# EAGLE library part ROTARY_SW (library SquantorButtons)
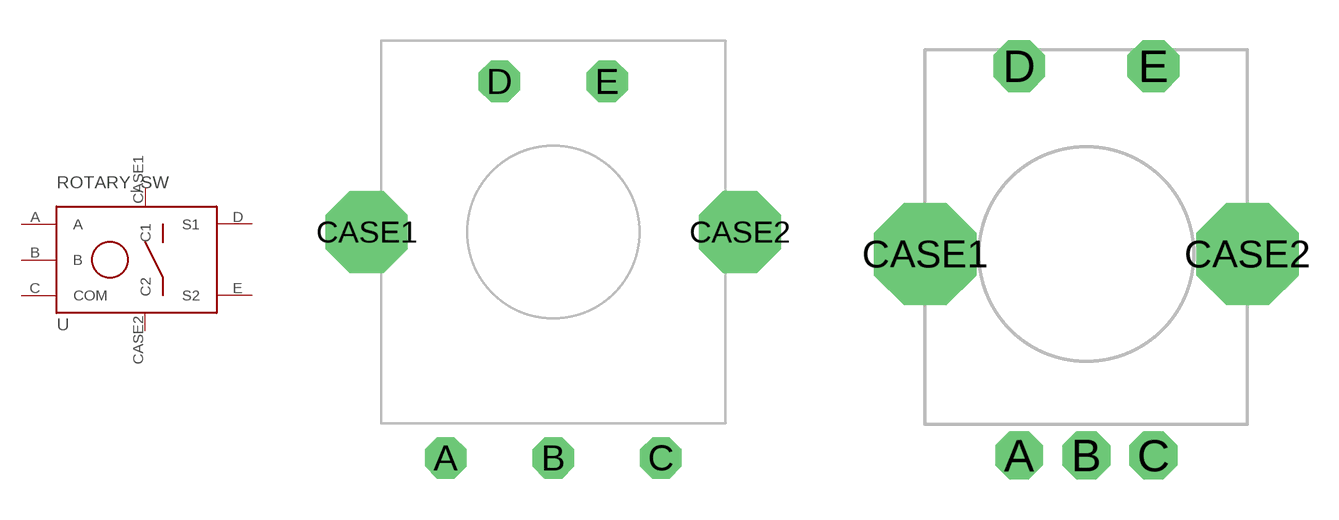
[diagram p0: symbol with the pads of ROTARY_VOTI.NL; footprints ROTARY_VOTI.NL, ROTARY_SAMENKOPEN]

Designator prefix -

## ROTARY_SW13MM  [ROTARY_VOTI.NL]
A  A
B  B
C  COM
CASE1  C1
CASE2  C2
D  S1
E  S2

## ROTARY_SW  [ROTARY_SAMENKOPEN]
Pads as for ROTARY_VOTI.NL

## Footprint ROTARY_VOTI.NL (pad centres in mm)
Rotary Encoder Rotary encoder with switch from voti.nl, after some searching resembles the Bourns PEC16-4xxxF-Sxxxx series a lot.
drill 1.2 pad 1.93 octagon: A -5,-10.5; B 0,-10.5; C 5,-10.5; D -2.5,7; E 2.5,7
drill 2.2 pad 3.81 octagon: CASE1 -8.67,0; CASE2 8.67,0

## Footprint ROTARY_SAMENKOPEN (pad centres in mm)
drill 1 pad 1.778 octagon: A -2.5,-7.5; B 0,-7.5; C 2.5,-7.5
drill 2.2 pad 3.81 octagon: CASE1 -6,0; CASE2 6,0
drill 1.2 pad 1.93 octagon: D -2.5,7; E 2.5,7